# EAGLE library part SIP32431DR3-T1GE3 (library SamacSys_Parts)
VISHAY - SIP32431DR3-T1GE3 - IC, LOAD SWITCH, 1.1V-5.5V, 1A, SC70 Source: Datasheet <https://www.vishay.com/docs/66597/sip32431.pdf>
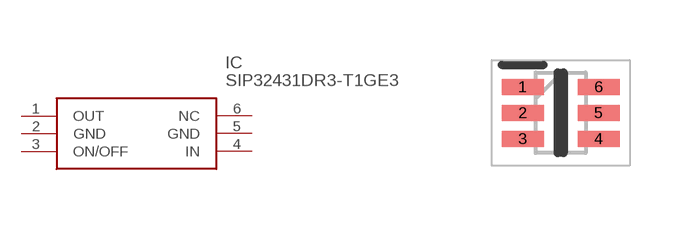
[diagram p11: symbol with the pads of SOT65P210X110-6N; footprint SOT65P210X110-6N]

Designator prefix IC

## SIP32431DR3-T1GE3 (DESCRIPTION: VISHAY - SIP32431DR3-T1GE3 - IC, LOAD SWITCH, 1.1V-5.5V, 1A, SC70; HEIGHT: 1.1mm; MANUFACTURER_NAME: Vishay; MANUFACTURER_PART_NUMBER: SIP32431DR3-T1GE3; MOUSER_PART_NUMBER: 781-SIP32431DR3-GE3; MOUSER_PRICE-STOCK: https://www.mouser.com/Search/Refine.aspx?Keyword=781-SIP32431DR3-GE3; RS_PART_NUMBER: 1807353; RS_PRICE-STOCK: http://uk.rs-online.com/web/p/products/1807353)  [SOT65P210X110-6N]
1  OUT  sup
2  GND
3  ON/OFF
4  IN
5  GND
6  NC  nc

## Footprint SOT65P210X110-6N (pad centres in mm)
SC-70 6-LEADS_1
smd 1.05 x 0.4: 1 -0.95,0.65; 2 -0.95,0; 3 -0.95,-0.65; 4 0.95,-0.65; 5 0.95,0; 6 0.95,0.65